# Altium schematic symbol library Dev2.SCHLIB: 68 symbols
Pins are listed as number, name and electrical type; pins without a type are passive.

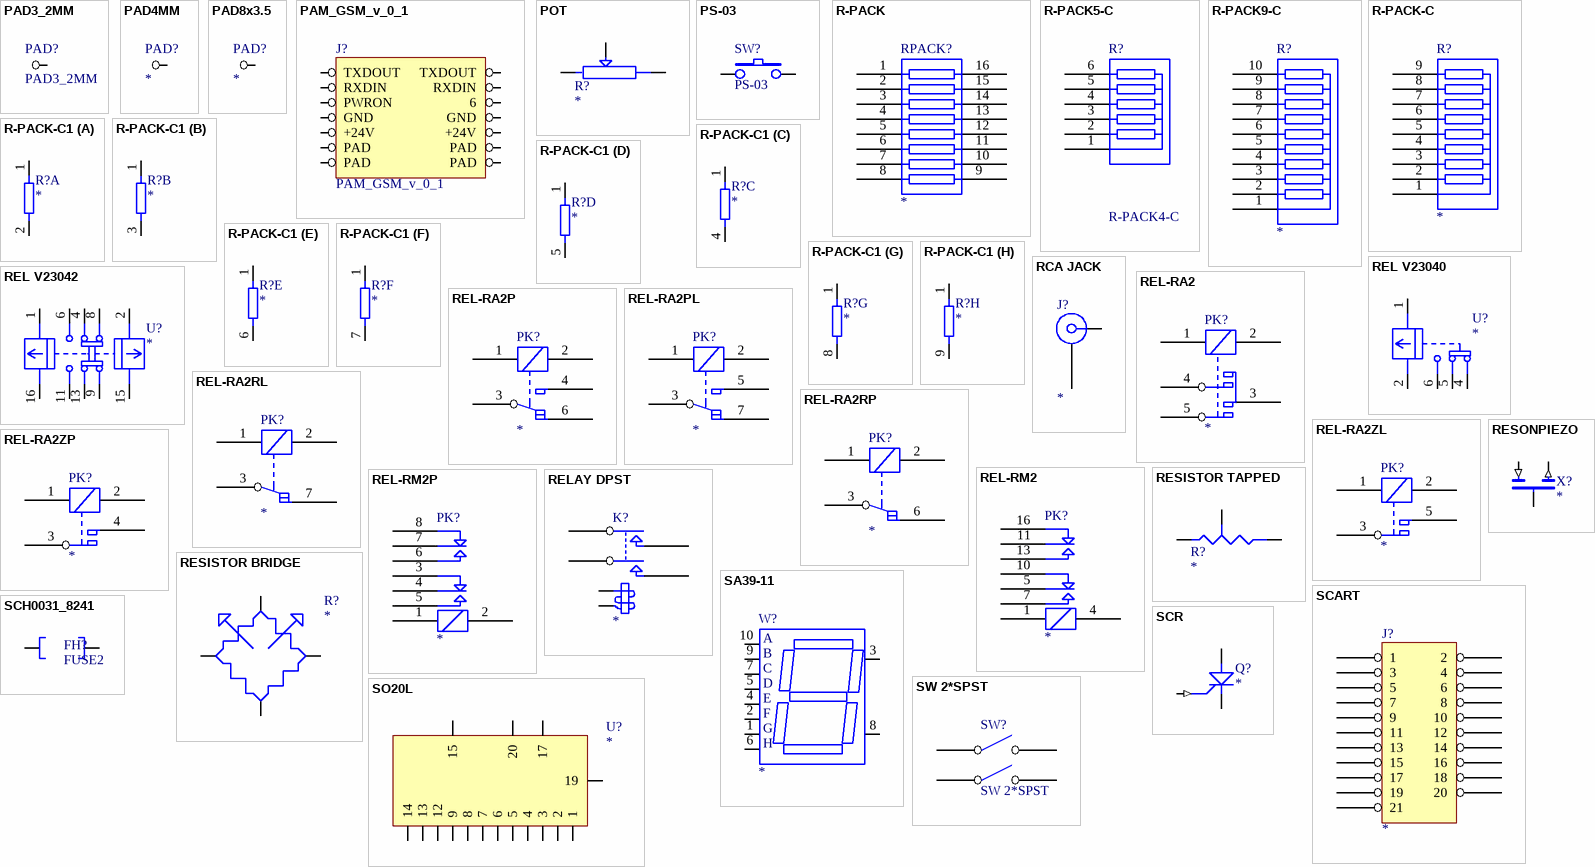
[diagram p0: symbols PAD3_2MM to SW 2*SPST]

## PAD3_2MM
designator PAD?  (no BOM)
Value: PAD3_2MM
footprint PAD3_2MM (Footprint not found)
pins: 1

## PAD4MM
designator PAD?
footprint PAD4MM (Footprint not found)
pins: 1

## PAD8x3.5
designator PAD?  (no BOM)
footprint PAD8x3.5 (Footprint not found)
pins: 1

## PAM_GSM_v_0_1
designator J?
Value: PAM_GSM_v_0_1
pins: 1 TXDOUT, 2 TXDOUT, 3 RXDIN, 4 RXDIN, 5 PWRON, 6, 7 GND, 8 GND, 9 +24V, 10 +24V, 11 PAD, 12 PAD, 13 PAD, 14 PAD

## POT
designator R?
pins: 1, 2, 3

## PS-03
designator SW?
Value: PS-03
pins: 1, 2

## R-PACK
designator RPACK?
pins: 1 R1, 2 R2, 3 R3, 4 R4, 5 R5, 6 R6, 7 R7, 8 R8, 9 R8, 10 R7, 11 R6, 12 R5, 13 R4, 14 R3, 15 R2, 16 R1

## R-PACK5-C
designator R?, comment R-PACK4-C
Value: R-PACK4-C
pins: 1, 2 R8, 3 R7, 4 R6, 5 R5, 6 R4

## R-PACK9-C
designator R?
pins: 1, 2, 3, 4, 5, 6, 7, 8, 9, 10

## R-PACK-C
designator R?
footprint 9SIP100
pins: 1, 2 R8, 3 R7, 4 R6, 5 R5, 6 R4, 7 R3, 8 R2, 9 R1

## R-PACK-C1
designator R?
pins on every part: 1
part A pins: 2
part B pins: 3 2
part C pins: 4 2
part D pins: 5 2
part E pins: 6 2
part F pins: 7 2
part G pins: 8 2
part H pins: 9 2

## RCA JACK
designator J?
pins: 1, 2

## REL V23040
designator U?
pins: 1, 2, 4, 5, 6

## REL V23042
designator U?
pins: 1, 2, 4, 6, 8, 9, 11, 13, 15, 16

## REL-RA2
designator PK?
pins: 1, 2, 3, 4, 5

## REL-RA2P
designator PK?
pins: 1, 2, 3, 4, 6

## REL-RA2PL
designator PK?
pins: 1, 2, 3, 5, 7

## REL-RA2RL
designator PK?
pins: 1, 2, 3, 7

## REL-RA2RP
designator PK?
pins: 1, 2, 3, 6

## REL-RA2ZL
designator PK?
pins: 1, 2, 3, 5

## REL-RA2ZP
designator PK?
pins: 1, 2, 3, 4

## REL-RM2
designator PK?
pins: 1, 4, 5, 7, 10, 11, 13, 16

## REL-RM2P
designator PK?
pins: 1, 2 4, 3 10, 4 5, 5 7, 6 13, 7 11, 8 16

## RELAY DPST
designator K?
pins: COIL1, COIL2, COMMON1, COMMON2, NO1, NO2

## RESISTOR BRIDGE
designator R?
pins: 1, 2, 3, 4

## RESISTOR TAPPED
designator R?
pins: A, B, TAP

## RESONPIEZO
designator X?
pins: GND, IN (in), OUT (out)

## SA39-11
designator W?
pins: 1 G, 2 F, 3 DEFG, 4 E, 5 D, 6 H, 7 C, 8 ABCH, 9 B, 10 A

## SCART
designator J?
pins: 1, 2, 3, 4, 5, 6, 7, 8, 9, 10, 11, 12, 13, 14, 15, 16, 17, 18, 19, 20, 21

## SCH0031_8241
designator FH?, comment FUSE2
Value: FUSE2
footprint SCH0031_8241 (Footprint not found)
pins: 1, 2

## SCR
designator Q?
pins: ANOD, CATH, GATE (in)

## SO20L
designator U?
pins: 1, 2, 3, 4, 5, 6, 7, 8, 9, 12, 13, 14, 15, 17, 19, 20

## SW 2*SPST
designator SW?
Value: SW 2*SPST
pins: COM1, COM2, NO1, NO2

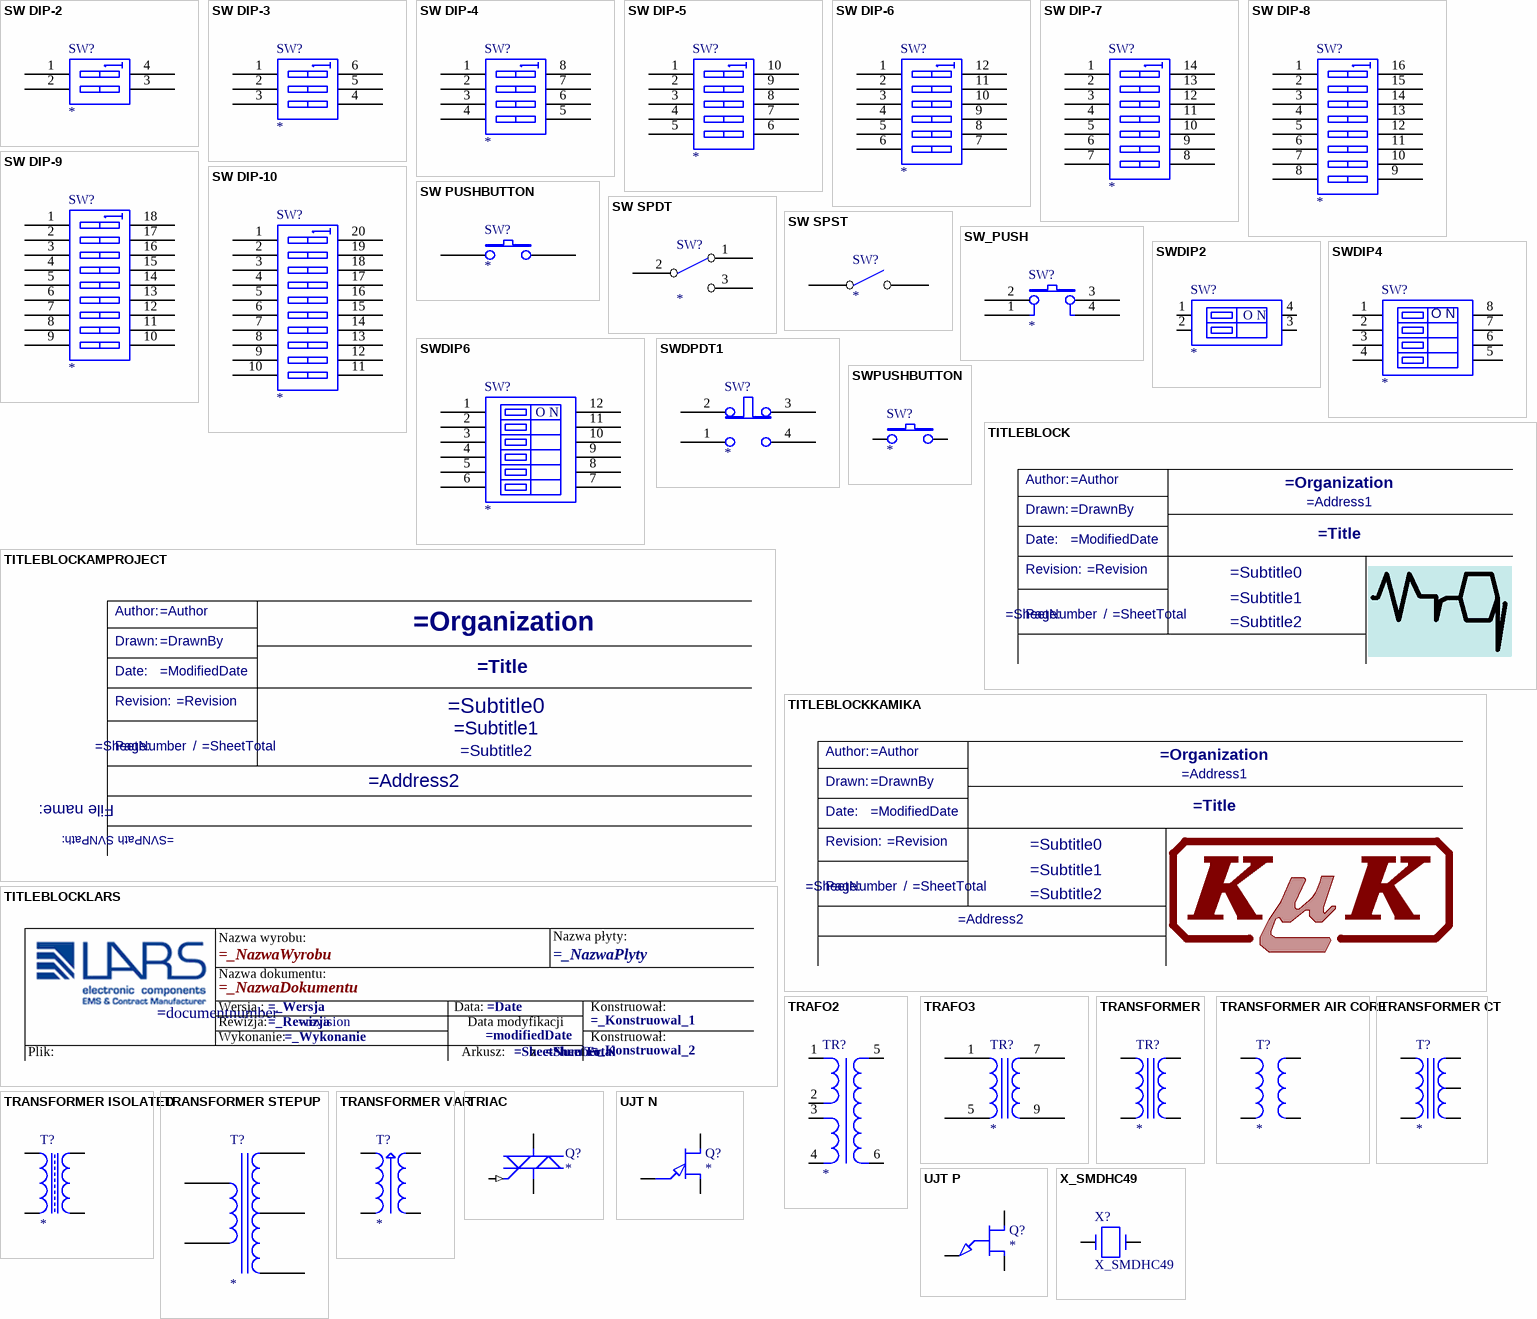
[diagram p1: symbols SW DIP-2 to X_SMDHC49]

## SW DIP-2
designator SW?
pins: 1 A1, 2 A2, 3 B2, 4 B1

## SW DIP-3
designator SW?
pins: 1 A1, 2 A2, 3 A3, 4 B3, 5 B2, 6 B1

## SW DIP-4
designator SW?
pins: 1 A1, 2 A2, 3 A3, 4 A4, 5 B4, 6 B3, 7 B2, 8 B1

## SW DIP-5
designator SW?
pins: 1 A1, 2 A2, 3 A3, 4 A4, 5 A5, 6 B5, 7 B4, 8 B3, 9 B2, 10 B1

## SW DIP-6
designator SW?
pins: 1 A1, 2 A2, 3 A3, 4 A4, 5 A5, 6 A6, 7 B6, 8 B5, 9 B4, 10 B3, 11 B2, 12 B1

## SW DIP-7
designator SW?
pins: 1 A1, 2 A2, 3 A3, 4 A4, 5 A5, 6 A6, 7 A7, 8 B7, 9 B6, 10 B5, 11 B4, 12 B3, 13 B2, 14 B1

## SW DIP-8
designator SW?
pins: 1 A1, 2 A2, 3 A3, 4 A4, 5 A5, 6 A6, 7 A7, 8 A8, 9 B8, 10 B7, 11 B6, 12 B5, 13 B4, 14 B3, 15 B2, 16 B1

## SW DIP-9
designator SW?
pins: 1 A1, 2 A2, 3 A3, 4 A4, 5 A5, 6 A6, 7 A7, 8 A8, 9 A9, 10 B9, 11 B8, 12 B7, 13 B6, 14 B5, 15 B4, 16 B3, 17 B2, 18 B1

## SW DIP-10
designator SW?
pins: 1 A1, 2 A2, 3 A3, 4 A4, 5 A5, 6 A6, 7 A7, 8 A8, 9 A9, 10 A10, 11 B10, 12 B9, 13 B8, 14 B7, 15 B6, 16 B5, 17 B4, 18 B3, 19 B2, 20 B1

## SW PUSHBUTTON
designator SW?
pins: 1, 2

## SW SPDT
designator SW?
pins: 1 NC, 2 COMM, 3 NO

## SW SPST
designator SW?
pins: 1, 2

## SW_PUSH
designator SW?
footprint SW_PUSH
pins: 1, 2, 3, 4

## SWDIP2
designator SW?
pins: 1, 2, 3, 4
text: O N

## SWDIP4
designator SW?
Value: SWDIP4
pins: 1, 2, 3, 4, 5, 6, 7 3, 8 4
text: O N

## SWDIP6
designator SW?
pins: 1, 2, 3, 4, 5, 6, 7, 8, 9 5, 10 6, 11 3, 12 4
text: O N

## SWDPDT1
designator SW?
pins: 1, 2, 3, 4

## SWPUSHBUTTON
designator SW?
footprint DTSM31NB
pins: 1, 2

## TITLEBLOCK
designator TB  (value not drawn)  (graphical)
text: Author:; Drawn:; Date:; Revision:; Page:; /

## TITLEBLOCKAMPROJECT
designator TB  (value not drawn)  (graphical)
text: Author:; Drawn:; Date:; Revision:; Page:; /; File name:; SVNPath:

## TITLEBLOCKKAMIKA
designator TB  (value not drawn)  (graphical)
text: Author:; Drawn:; Date:; Revision:; Page:; /

## TITLEBLOCKLARS
designator *  (value not drawn)  (no BOM)
text: Nazwa wyrobu:; Nazwa płyty:; Nazwa dokumentu:; Wersja :; Data:; Konstruował:; Rewizja:; Data modyfikacji; Wykonanie:; Plik:; Arkusz:; z

## TRAFO2
designator TR?
pins: 1, 2, 3, 4, 5, 6

## TRAFO3
designator TR?
pins: 1, 5, 7, 9
1 alternate drawing of the same symbol

## TRANSFORMER
designator TR?
pins: 1, 2, 3, 4

## TRANSFORMER AIR CORE
designator T?
pins: 1, 2, 3, 4

## TRANSFORMER CT
designator T?
pins: IN1, IN2, OUT1, OUT2, OUT-CT

## TRANSFORMER ISOLATED
designator T?
pins: IN1, IN2, OUT1, OUT2

## TRANSFORMER STEPUP
designator T?
pins: AA, AB, BA, BB, BCT

## TRANSFORMER VAR
designator T?
pins: IN1, IN2, OUT1, OUT2

## TRIAC
designator Q?
pins: A1, A2, GATE (in)

## UJT N
designator Q?
pins: BASE1, BASE2, EMITTER

## UJT P
designator Q?
pins: BASE1, BASE2, EMITTER

## X_SMDHC49
designator X?
Value: X_SMDHC49
footprint HC49/4HSMX
footprint HC49/4HSMX
pins: 1, 2

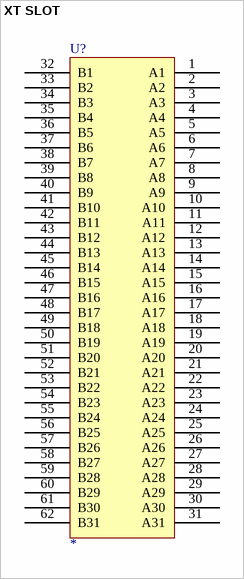
[diagram p2: symbol XT SLOT]

## XT SLOT
designator U?
pins: 1 A1, 2 A2, 3 A3, 4 A4, 5 A5, 6 A6, 7 A7, 8 A8, 9 A9, 10 A10, 11 A11, 12 A12, 13 A13, 14 A14, 15 A15, 16 A16, 17 A17, 18 A18, 19 A19, 20 A20, 21 A21, 22 A22, 23 A23, 24 A24, 25 A25, 26 A26, 27 A27, 28 A28, 29 A29, 30 A30, 31 A31, 32 B1, 33 B2, 34 B3, 35 B4, 36 B5, 37 B6, 38 B7, 39 B8, 40 B9, 41 B10, 42 B11, 43 B12, 44 B13, 45 B14, 46 B15, 47 B16, 48 B17, 49 B18, 50 B19, 51 B20, 52 B21, 53 B22, 54 B23, 55 B24, 56 B25, 57 B26, 58 B27, 59 B28, 60 B29, 61 B30, 62 B31